# Altium footprint library Button.PcbLib: 1 footprints
Each footprint in its own frame and in the unit in brackets; x right, y up, seen from the top. Pads: shape width x height; smd on the part's side, far side on the other; paste and mask are expansions set on the pad; w line width, h text height; cw(c..) or ccw(c..) is an arc to the next point about the centre after c.
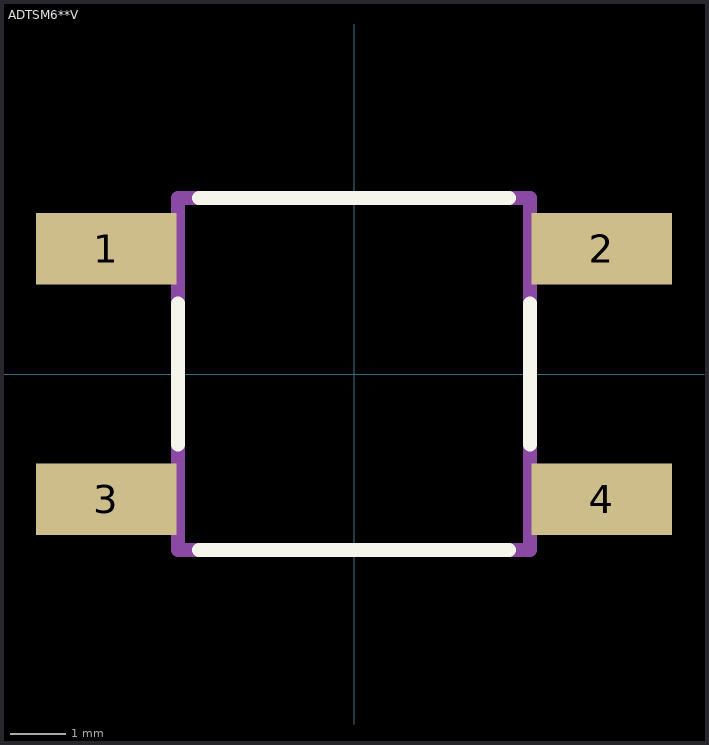
[diagram p0: the footprint, top view; thin cyan lines are the x and y axes]

## ADTSM6**V [mil] "Tactile button"
pads (4):
  rect 100x51 smd: 1(-176,89) 2(176,89) 3(-176,-89) 4(176,-89)
Top Overlay:
  lines w10: -125,-50 -125,50 ; -110,-125 110,-125 ; -110,125 110,125 ; 125,-50 125,50
Mechanical 1:
  lines w10: -125,-125 -125,125 125,125 125,-125 -125,-125